# EAGLE library part 653110131822 (library Wuerth_Elektronik_eiCan_Wire_to_Board_Connectors v1.2)
WR-WTB 1.25mm SMT Male Horizontal Shrouded Header, 10 Pins
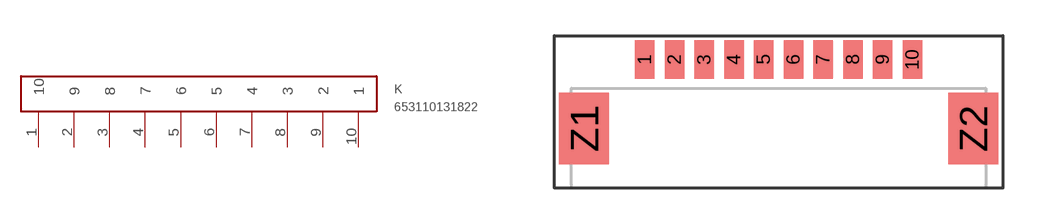
[diagram p67: symbol with the pads of 653110131822; footprint 653110131822]

Designator prefix K

## 653110131822  [653110131822]
1  10
2  9
3  8
4  7
5  6
6  5
7  4
8  3
9  2
10  1

## Footprint 653110131822 (pad centres in mm)
WR-WTB 1.25mm SMT Male Horizontal Shrouded Header, 10 Pins
smd 0.81 x 1.6: 1 -0.625,0; 2 0.625,0; 3 1.875,0; 4 3.125,0; 5 4.375,0; 6 5.625,0; 7 6.875,0; 8 8.125,0; 9 9.375,0; 10 10.625,0
smd 2.1 x 3: Z1 -3.175,-2.9; Z2 13.175,-2.9